# Altium footprint library W3796.PcbLib: 1 footprints
Each footprint in its own frame and in the unit in brackets; x right, y up, seen from the top. Pads: shape width x height; smd on the part's side, far side on the other; paste and mask are expansions set on the pad; w line width, h text height; cw(c..) or ccw(c..) is an arc to the next point about the centre after c.
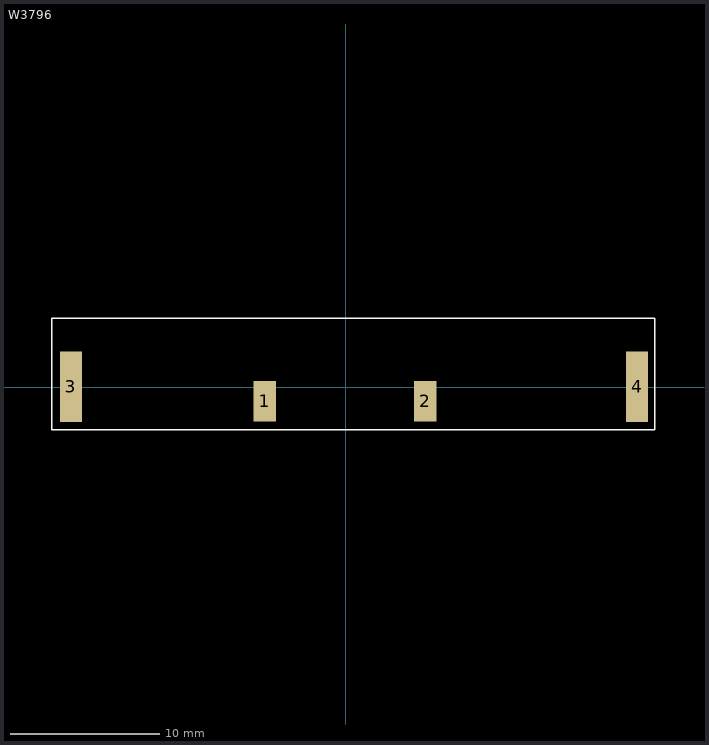
[diagram p0: the footprint, top view; thin cyan lines are the x and y axes]

## W3796 [mm] "LTE Antenna"
height 3
pads (4):
  rect 1.5x2.72 smd: 1(-5.45,-0.94) 2(5.34,-0.94)
  rect 1.5x4.72 smd: 3(-18.45,0.05) 4(19.55,0.05)
Top Overlay:
  lines w0.1: -19.75,-2.85 20.75,-2.85 20.75,4.65 -19.75,4.65 -19.75,-2.85
Mechanical 1:
  lines w0.1: -5.4,-1.1 -5.4,0 ; 5.4,-1.1 5.4,0
3D body "w3796_221118.stp": height 3.05, standoff -0.05, extent -19.5,-2.6 20.5,4.4